# Altium footprint library TO-92-3.PcbLib: 1 footprints
Each footprint in its own frame and in the unit in brackets; x right, y up, seen from the top. Pads: shape width x height; smd on the part's side, far side on the other; paste and mask are expansions set on the pad; w line width, h text height; cw(c..) or ccw(c..) is an arc to the next point about the centre after c.
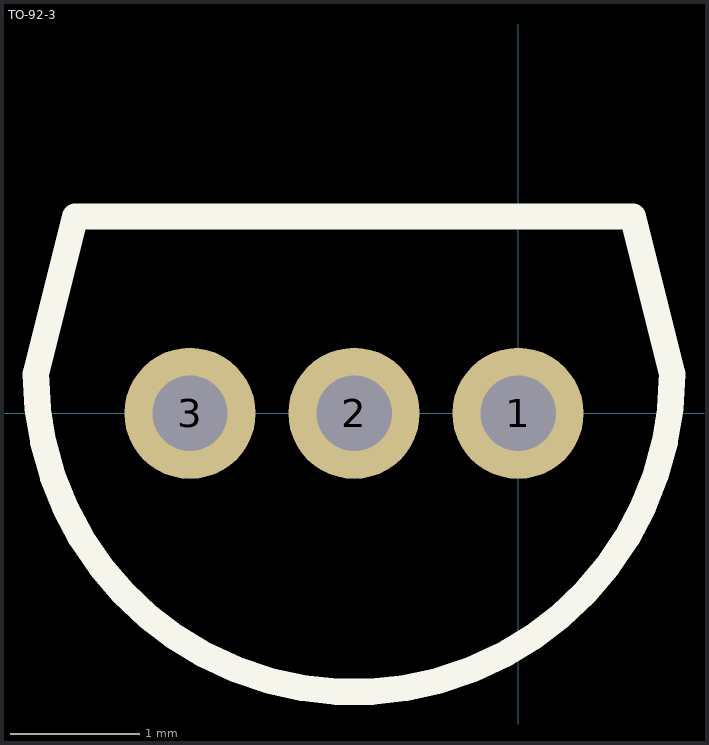
[diagram p0: the footprint, top view; thin cyan lines are the x and y axes]

## TO-92-3 [mil]
pads (3):
  round 40 hole 23: 1(0,0) 2(-50,0) 3(-100,0)
Top Overlay:
  lines w8: -147,12 ccw(c-50.01,11.98) 46.98,11.98 35,60 -135,60 -147,12